# Altium schematic symbol library 1N5225B_R0G.SchLib: 1 symbol
Pins are listed as number, name and electrical type; pins without a type are passive.

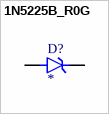
[diagram p0: symbol 1N5225B_R0G]

## 1N5225B_R0G
designator D?
MP: 1N5225B_R0G; Value: *; Availability: Unavailable; Price: None; Package: None
footprint DIOAD928W47L399D179
pins: A, C K